# EAGLE library part CAT24C256 (library BoneCapeParts)
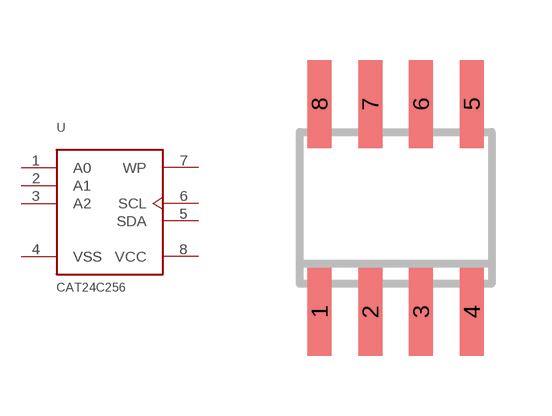
[diagram p1: symbol with the pads of SOIC8; footprint SOIC8]

Designator prefix -

## CAT24C256  [SOIC8]
1  A0  in
2  A1  in
3  A2  in
4  VSS  sup
5  SDA  oc
6  SCL  oc
7  WP  in
8  VCC  sup

## Footprint SOIC8 (pad centres in mm)
Small Outline IC
smd 0.6 x 2.2: 1 -1.905,-2.6; 2 -0.635,-2.6; 3 0.635,-2.6; 4 1.905,-2.6; 5 1.905,2.6; 6 0.635,2.6; 7 -0.635,2.6; 8 -1.905,2.6